# Altium schematic symbol library 10A_Motor_Driver.SchLib: 72 symbols (part 2 of 2)
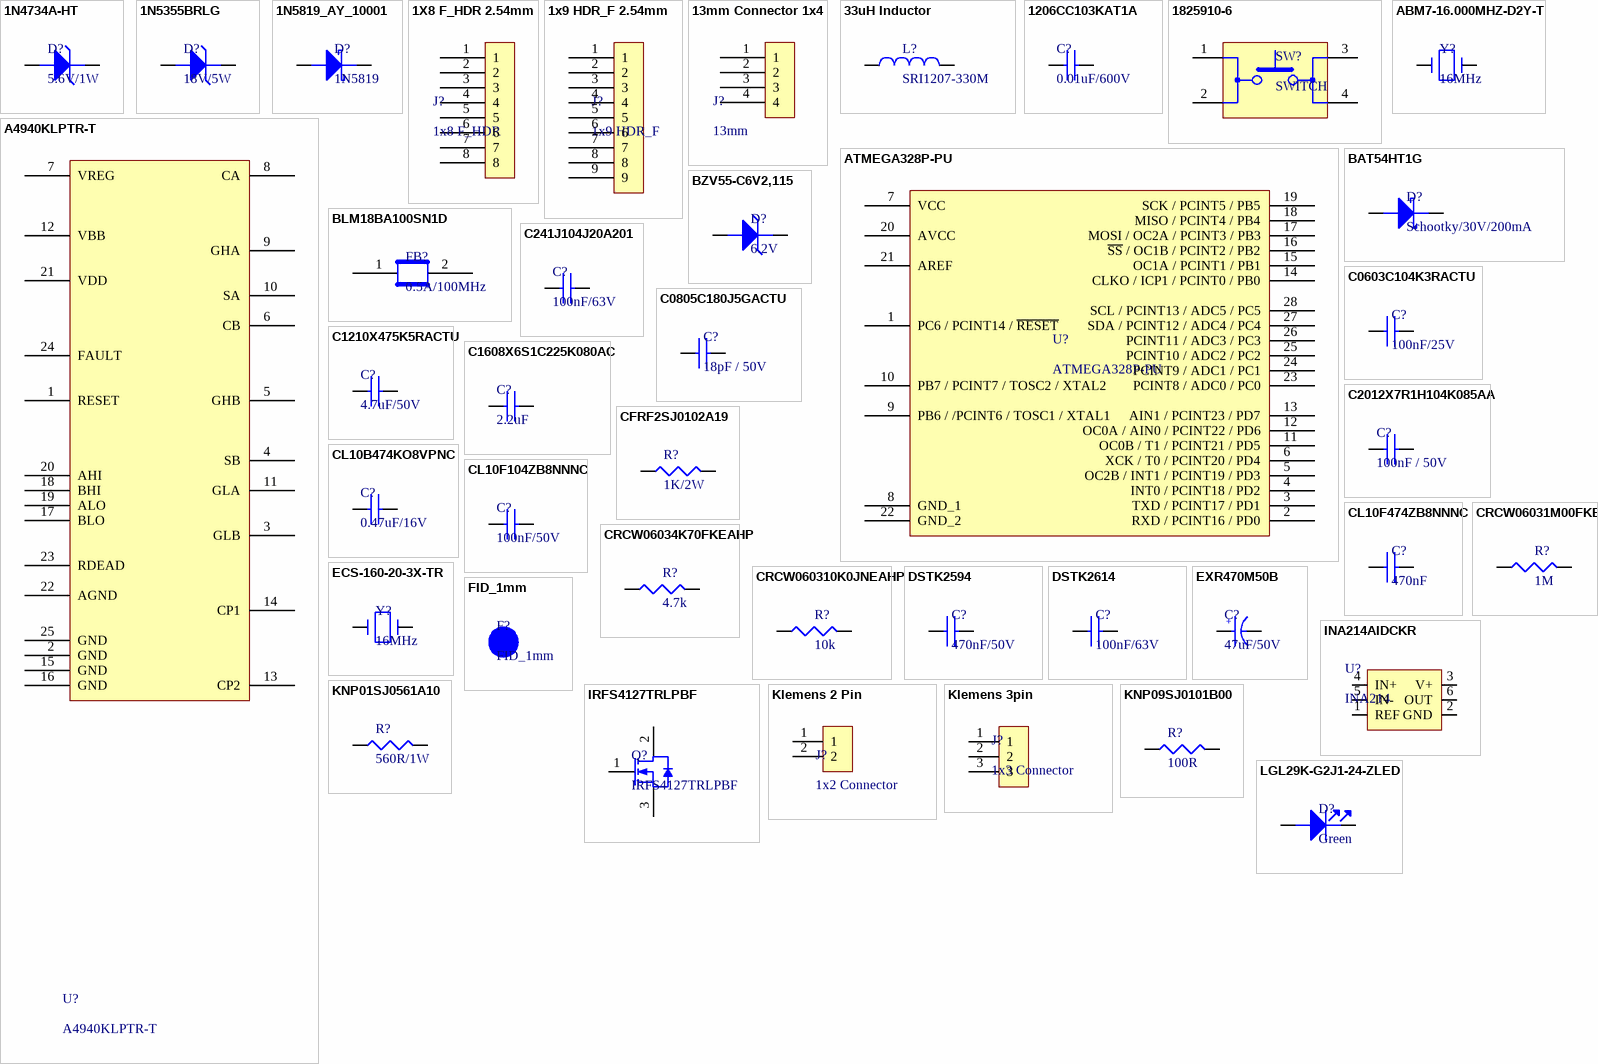
[diagram p2: symbols 1N4734A-HT to LGL29K-G2J1-24-ZLED]

## IRFS4127TRLPBF
designator Q?
MOSFET N-CH 200V 72A D2PAK; Manufacturer: International Rectifier; Rise Time: 18ns; Fall Time: 22ns; Turn-Off Delay Time: 56ns; Turn-On Delay Time: 17ns; Gate to Source Voltage (Vgs): 20V; Rds On Max: 22mR; Input Capacitance: 5.38nF; Max Power Dissipation: 375W; Element Configuration: Single; Supplier 1: Arrow; Manufacturer Part Number: IRFS4127TRLPBF; RoHS: Yes; Category: MOSFETs; Stock 1: 25; Pricing 1: 1=2,62080, 10=2,29670, 25=2,28010, 50=2,25740, 100=1,79330, 250=1,70640, 500=1,68930, 1000=1,44110, 3000=1,29240, 6000=1,28060, 15000=1,26780, 30000=1,25510, 75000=1,24260 (USD); Mount: Surface Mount; Case/Package: D2PAK; Number of Pins: 3; Min Operating Temperature: -55°C; Max Operating Temperature: 175°C; Continuous Drain Current (ID): 72A; Package Quantity: 1; Packaging: Tape and Reel; Drain to Source Voltage (Vdss): 200V; Drain to Source Breakdown Voltage: 200V; Drain to Source Resistance: 22mR; Power Dissipation: 375W; On-State Resistance: 22MR; ComponentLink1URL: https://datasheet.ciiva.com/939/irfs4127pbf-939456.pdf?src-supplier=Digi-Key; ComponentLink1Description: https://datasheet.ciiva.com/939/irfs4127pbf-939456.pdf?src-supplier=Digi-Key; ComponentLink2URL: https://datasheet.ciiva.com/939/irfs4127pbf-939457.pdf?src-supplier=Digi-Key; ComponentLink2Description: https://datasheet.ciiva.com/939/irfs4127pbf-939457.pdf?src-supplier=Digi-Key; ComponentLink3URL: https://datasheet.ciiva.com/939/irfs4127pbf-939458.pdf?src-supplier=Digi-Key; ComponentLink3Description: https://datasheet.ciiva.com/939/irfs4127pbf-939458.pdf?src-supplier=Digi-Key; ComponentLink4URL: https://datasheet.ciiva.com/16221/irfs4127pbf-16221031.pdf?src-supplier=Future+Electronics; ComponentLink4Description: https://datasheet.ciiva.com/16221/irfs4127pbf-16221031.pdf?src-supplier=Future+Electronics; Supplier Part Number 1: IRFS4127TRLPBF
footprint TO-220
pins: 1 GATE, 2 DRAIN, 3 SOURCE

## Klemens 2 Pin
designator J?, comment 1x2 Connector
footprint Klemens 1x2
pins: 1, 2

## Klemens 3pin
designator J?, comment 1x3 Connector
footprint KLEMENS 1x3
pins: 1, 2, 3

## KNP01SJ0561A10
designator R?, comment 560R/1W
footprint THT Resistor
pins: 1, 2

## KNP09SJ0101B00
designator R?, comment 100R
footprint THT Resistor
pins: 1, 2

## LGL29K-G2J1-24-ZLED
designator D?, comment Green
Uni-Color Green 572nm 2-Pin Chip 0603(1608Metric) T/R
footprint LED_0603_GREEN
pins: 1 Cathode, 2 Anode

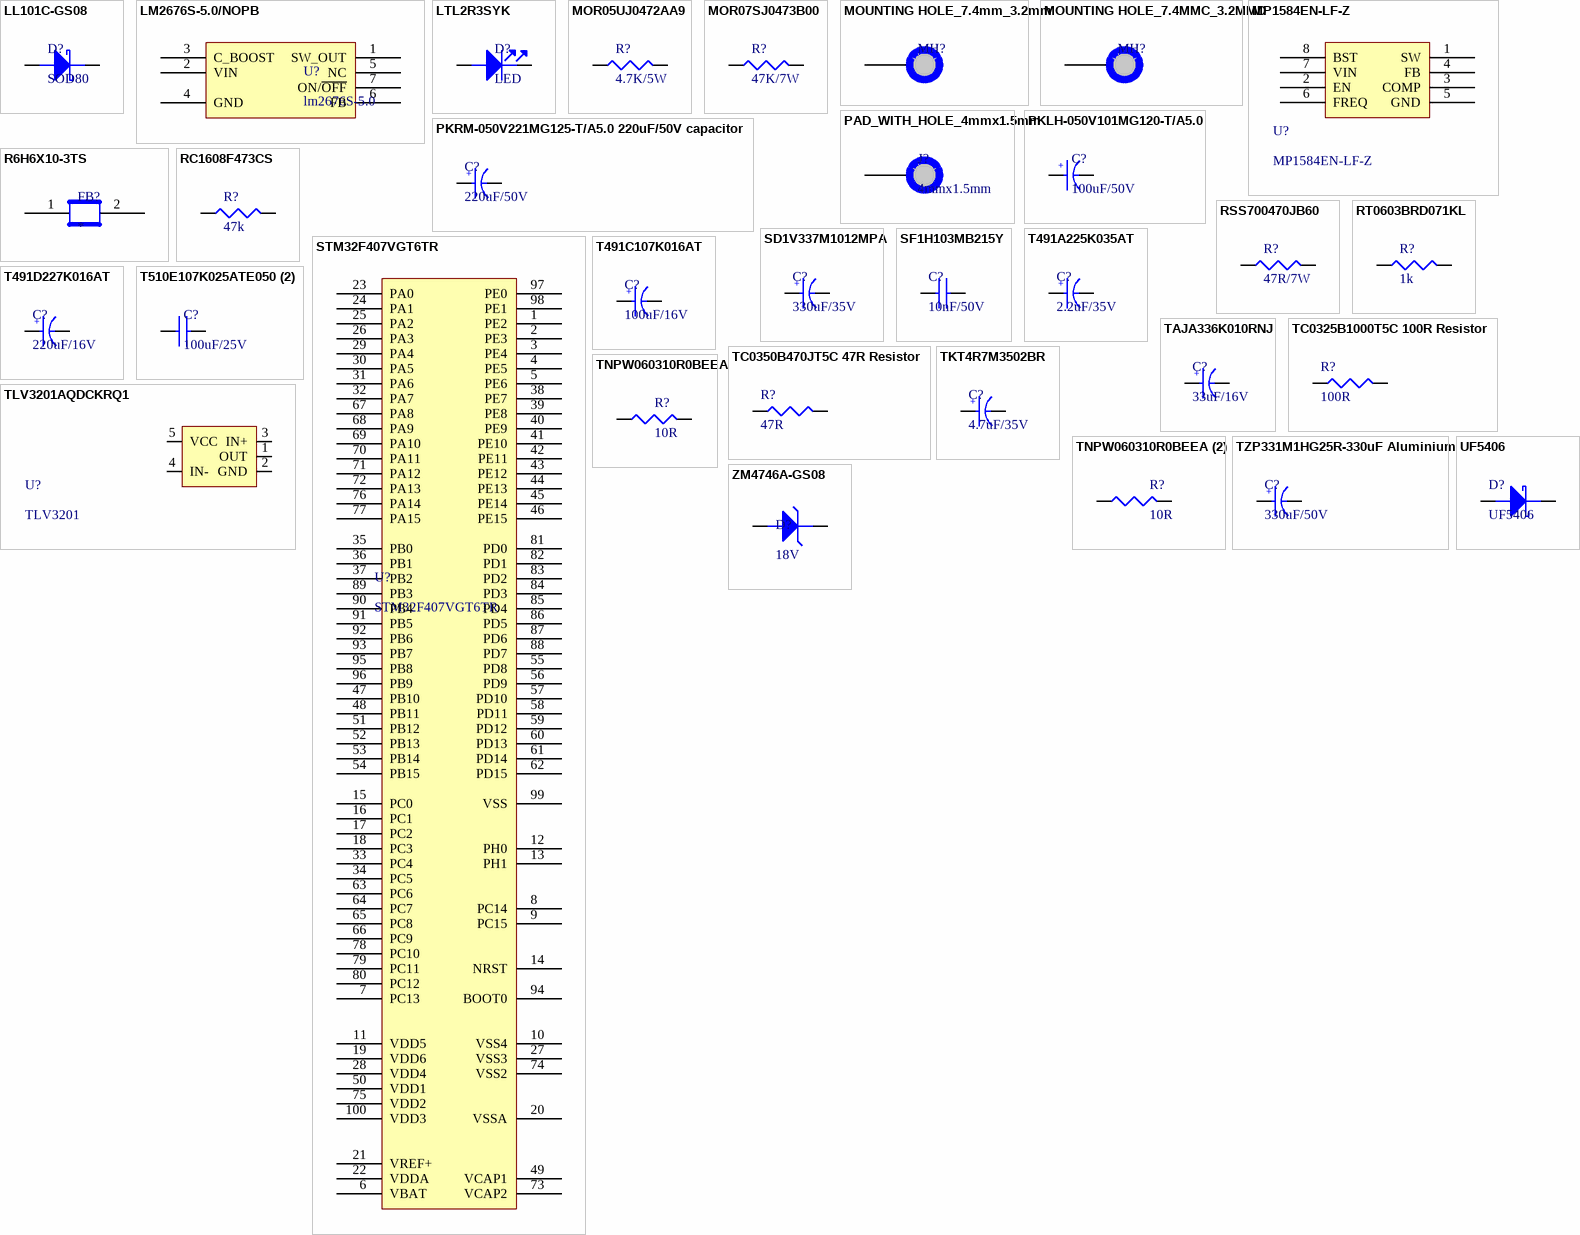
[diagram p1: symbols LL101C-GS08 to ZM4746A-GS08]

## LL101C-GS08
designator D?, comment SOD80
VISHAY   LL101C-GS08   DIODE, SCHOTTKY, 40V 0.03A, SOD80; Average Rectified Current: 30mA; Peak Reverse Current: 200nA; Reverse Recovery Time: 1ns; Max Forward Surge Current (Ifsm): 2A; Power Dissipation: 400mW; Current Rating: 30A; Element Configuration: Single; Forward Voltage: 900mV; Supplier 1: Avnet; Manufacturer: Vishay; Manufacturer Part Number: LL101C-GS08; RoHS: Yes; Category: Schottky Diodes; Stock 1: 20000; Pricing 1: 2500=0,05455, 5000=0,05303, 10000=0,05160, 15000=0,05024, 25000=0,04895 (USD); Mount: Surface Mount; Number of Pins: 2; Min Operating Temperature: -65°C; Max Operating Temperature: 125°C; Max Repetitive Reverse Voltage (Vrrm): 40V; Peak Non-Repetitive Surge Current: 2A; Packaging: Tape and Reel; Package Quantity: 2500; Forward Current: 30mA; Max Reverse Voltage (DC): 40V; Current: 2A; Voltage: 40V; Max Reverse Leakage Current: 200nA; Max Surge Current: 2A; Recovery Time: 1ns; Length: 3.7mm; Height: 1.6mm; Width: 1.6mm; Radiation Hardening: No; Lead Free: Lead Free; REACH SVHC: Unknown; ComponentLink1URL: https://datasheet.ciiva.com/5726/1734641-5726561.pdf?src-supplier=Farnell; ComponentLink1Description: https://datasheet.ciiva.com/5726/1734641-5726561.pdf?src-supplier=Farnell; ComponentLink2URL: https://datasheet.ciiva.com/23642/1734837-23642459.pdf?src-supplier=Newark; ComponentLink2Description: https://datasheet.ciiva.com/23642/1734837-23642459.pdf?src-supplier=Newark; ComponentLink3URL: https://datasheet.ciiva.com/4246/ll101a-4246222.pdf?src-supplier=Arrow; ComponentLink3Description: https://datasheet.ciiva.com/4246/ll101a-4246222.pdf?src-supplier=Arrow; ComponentLink4URL: https://datasheet.ciiva.com/16386/ll101a-16386169.pdf?src-supplier=Future+Electronics; ComponentLink4Description: https://datasheet.ciiva.com/16386/ll101a-16386169.pdf?src-supplier=Future+Electronics; ComponentLink5URL: https://datasheet.ciiva.com/13946/ll101a-13946748.pdf?src-supplier=Digi-Key; ComponentLink5Description: https://datasheet.ciiva.com/13946/ll101a-13946748.pdf?src-supplier=Digi-Key; ComponentLink6URL: https://datasheet.ciiva.com/13946/ll101a-13946749.pdf?src-supplier=Digi-Key; ComponentLink6Description: https://datasheet.ciiva.com/13946/ll101a-13946749.pdf?src-supplier=Digi-Key; ComponentLink7URL: https://datasheet.ciiva.com/25931/ll101a-25931901.pdf?src-supplier=Avnet+Europe; ComponentLink7Description: https://datasheet.ciiva.com/25931/ll101a-25931901.pdf?src-supplier=Avnet+Europe; ComponentLink8URL: https://datasheet.ciiva.com/8288/ll101a-8288574.pdf?src-supplier=Avnet; ComponentLink8Description: https://datasheet.ciiva.com/8288/ll101a-8288574.pdf?src-supplier=Avnet; ComponentLink9URL: https://datasheet.ciiva.com/13946/ll101a-13946750.pdf?src-supplier=Digi-Key; ComponentLink9Description: https://datasheet.ciiva.com/13946/ll101a-13946750.pdf?src-supplier=Digi-Key; Supplier Part Number 1: LL101C-GS08
footprint SOD-80/SCHOOTKY-DIOMELF3515N (MELF Diode, 2-Leads, Body 3,50x1,50mm, IPC Medium Density)
pins: 1 Cathode, 2 Anode

## LM2676S-5.0/NOPB
designator U?, comment lm2676S-5.0
TEXAS INSTRUMENTS - LM2676S-5.0/NOPB - STEP-DOWN VOLTAGE REGULATOR, 7-TO-263; Manufacturer: TI National Semiconductor; Output Voltage: 5V; Max Output Current: 3A; Number of Outputs: 1; Min Input Voltage: 8V; Max Input Voltage: 40V; Min Output Voltage: 4.9V; Switching Frequency: 260kHz; Efficiency: 88%; Output Type: Fixed; Quiescent Current: 4.2mA; Max Output Voltage: 5.1V; Supplier 1: Avnet; Manufacturer Part Number: LM2676S-5.0/NOPB; RoHS: Yes; Category: Voltage Regulators - Switching; Stock 1: 1126; Pricing 1: 1=3,79613, 10=3,69863, 25=3,60601, 50=3,51792, 100=3,38028 (USD); Mount: Surface Mount; Case/Package: TO-263; Number of Pins: 7; Weight: 0.25lb; Contact Plating: Tin,Matte; Min Operating Temperature: -40°C; Max Operating Temperature: 125°C; Package Quantity: 45; Packaging: Rail/Tube; Output Current: 3A; Frequency: 260kHz; Termination: SMD/SMT; Max Supply Voltage: 40V; Min Supply Voltage: 8V; Nominal Output Voltage: 5V; Length: 10.16mm; Height: 4.57mm; Width: 8.64mm; Radiation Hardening: No; Lead Free: Contains Lead; REACH SVHC: No SVHC; ComponentLink1URL: https://datasheet.ciiva.com/27051/1298953-27051889.pdf?src-supplier=Jameco; ComponentLink1Description: https://datasheet.ciiva.com/27051/1298953-27051889.pdf?src-supplier=Jameco; ComponentLink2URL: https://datasheet.ciiva.com/14150/jvlm2676x-xx-e-14150647.pdf?src-supplier=Distrelec; ComponentLink2Description: https://datasheet.ciiva.com/14150/jvlm2676x-xx-e-14150647.pdf?src-supplier=Distrelec; ComponentLink3URL: https://datasheet.ciiva.com/6580/lm2676-6580170.pdf?src-supplier=Digi-Key; ComponentLink3Description: https://datasheet.ciiva.com/6580/lm2676-6580170.pdf?src-supplier=Digi-Key; ComponentLink4URL: https://datasheet.ciiva.com/22684/1874597-22684586.pdf?src-supplier=Element14; ComponentLink4Description: https://datasheet.ciiva.com/22684/1874597-22684586.pdf?src-supplier=Element14; ComponentLink5URL: https://datasheet.ciiva.com/16536/lm2676-16536143.pdf?src-supplier=Avnet+Asia; ComponentLink5Description: https://datasheet.ciiva.com/16536/lm2676-16536143.pdf?src-supplier=Avnet+Asia; Supplier Part Number 1: LM2676S-5.0/NOPB
footprint LM2576-DPAK127P1418X465-8N (D2-PAK, 8-Pads, Body 7,55x8,57mm (max), IPC Medium Density)
pins: 1 SW_OUT, 2 VIN, 3 C_BOOST, 4 GND, 5 NC, 6 FB, 7 ON/~{OFF}

## LTL2R3SYK
designator D?, comment LED
LED AMBER CLEAR 5MM ROUND T/H; Manufacturer: Vishay Lite-On; Manufacturer Part Number: LTL2R3SYK; Lens Color: Colorless; Color: Orange; Test Current: 20mA; Dominant Wavelength: 590nm; Lens Style: Dome; Luminous Intensity: 2800mcd; Viewing Angle: 30°; Wavelength: 594nm; Forward Voltage: 2.35V; Supplier 1: Mouser; RoHS: Yes; Category: LEDs; Mount: Through Hole; Case/Package: Radial; Min Operating Temperature: -40°C; Max Operating Temperature: 80°C; Lens Transparency: Clear; Packaging: Bulk; Package Quantity: 1000; Illumination Color: Orange; Diameter: 5mm; Height: 8.7mm; ComponentLink1URL: http://www.mouser.com/ds/2/239/_100_LTL2P3SEK+SYK+2R3SEK+SYK-62951.pdf?src-supplier=Mouser; ComponentLink1Description: http://www.mouser.com/ds/2/239/_100_LTL2P3SEK+SYK+2R3SEK+SYK-62951.pdf?src-supplier=Mouser; ComponentLink2URL: https://media.digikey.com/pdf/Data%20Sheets/Lite-On%20PDFs/LTL2x3SEK,SYK.pdf?src-supplier=Digi-Key; ComponentLink2Description: https://media.digikey.com/pdf/Data%20Sheets/Lite-On%20PDFs/LTL2x3SEK,SYK.pdf?src-supplier=Digi-Key; Supplier Part Number 1: 859-LTL2R3SYK
footprint 5mm LED
pins: 1 Cathode, 2 Anode

## MOR05UJ0472AA9
designator R?, comment 4.7K/5W
footprint THT Resistor
pins: 1, 2

## MOR07SJ0473B00
designator R?, comment 47K/7W
Manufacturer: Royal Ohm; Manufacturer Part Number: MOR07SJ0473B00; Supplier 1: Avnet; Supplier Part Number 1: YDL66R-24-61S46106
footprint THT Resistor
pins: 1, 2

## MOUNTING HOLE_7.4mm_3.2mm
designator MH?  (value not drawn)
Mounting Hole  7.4mm, 3.2mm
footprint MH_7.2MMC_3.2MMD - duplicate
pins: 1

## MOUNTING HOLE_7.4MMC_3.2MMD
designator MH?  (value not drawn)
Mounting Hole  7.4mm, 3.2mm
footprint MH_7.2MMC_3.2MMD
pins: 1

## MP1584EN-LF-Z
designator U?
Switching Voltage Regulators 3A 1.5MHz 28V Nonsync Buck; Manufacturer: Monolithic Power Systems; Number of Outputs: 1; Min Input Voltage: 4.5V; Min Output Voltage: 800mV; Max Output Voltage: 25V; Synchronous Rectifier: No; Output Type: Adjustable; Output Configuration: Positive; Supplier 1: Mouser; Manufacturer Part Number: MP1584EN-LF-Z; RoHS: Yes; Category: Voltage Regulators - Switching; Stock 1: 2293; Pricing 1: 1=2,77000, 10=2,49000, 25=2,36000, 100=1,94000, 250=1,74000, 500=1,68000 (USD); Mount: Surface Mount; Case/Package: SOIC; Number of Pins: 8; Contact Plating: Tin,Matte; Min Operating Temperature: -20°C; Max Operating Temperature: 85°C; Max Input Voltage: 28V; Output Current: 3A; Switching Frequency: 1.5MHz; Packaging: Tape and Reel; Package Quantity: 2500; Operating Supply Voltage: 28V; Max Output Current: 3A; Output Voltage: 25V; Lead Free: Lead Free; ComponentLink1URL: http://www.mouser.com/ds/2/277/MP1584_r1.0-779241.pdf?src-supplier=Mouser; ComponentLink1Description: http://www.mouser.com/ds/2/277/MP1584_r1.0-779241.pdf?src-supplier=Mouser; ComponentLink2URL: http://www.monolithicpower.com/Portals/0/Documents/Products/Documents/datasheet/MP1584_r1.0.pdf?src-supplier=Digi-Key; ComponentLink2Description: http://www.monolithicpower.com/Portals/0/Documents/Products/Documents/datasheet/MP1584_r1.0.pdf?src-supplier=Digi-Key; ComponentLink3URL: http://www.monolithicpower.com/Portals/0/Documents/Products/Documents/datasheet/MP1584_r1.0.pdf?src-supplier=Avnet+Asia; ComponentLink3Description: http://www.monolithicpower.com/Portals/0/Documents/Products/Documents/datasheet/MP1584_r1.0.pdf?src-supplier=Avnet+Asia; ComponentLink4URL: https://www.monolithicpower.com/pub/media/document/MP1584_r1.0.pdf?src-supplier=Digi-Key; ComponentLink4Description: https://www.monolithicpower.com/pub/media/document/MP1584_r1.0.pdf?src-supplier=Digi-Key; Supplier Part Number 1: 946-MP1584ENLFZ
footprint SOIC127P600X170_HS-9N (SOIC, 8-Leads, Body 4,90x3,90mm, Pitch 1,27mm, Thermal Pad 3,51x2,62mm, IPC Medium Density)
pins: 1 SW, 2 EN, 3 COMP, 4 FB, 5 GND, 6 FREQ, 7 VIN, 8 BST

## PAD_WITH_HOLE_4mmx1.5mm
designator J?, comment 4mmx1.5mm  (no BOM)
PAD_WITH_HOLE_4mmx1.5mm
footprint PAD_WITH_HOLE_4mmx1.5mm
pins: 1

## PKLH-050V101MG120-T/A5.0
designator C?, comment 100uF/50V
footprint 10x12 THT Cap
pins: 1, 2
text: +

## PKRM-050V221MG125-T/A5.0 220uF/50V capacitor
designator C?, comment 220uF/50V
footprint 10X12.5X5 Alu Cap
pins: 1, 2
text: +

## R6H6X10-3TS
designator FB?
footprint 1N4745
pins: 1, 2

## RC1608F473CS
designator R?, comment 47k
Res Thick Film 0603 47K Ohm 1% 0.1W(1/10W) ±100ppm/C Molded SMD T/R; Manufacturer: Samsung; Manufacturer Part Number: RC1608F473CS; Resistance: 47kR; Temperature Coefficient: 100ppm/°C; Max Power Dissipation: 100mW; Voltage Rating (DC): 50V; Supplier 1: Arrow; RoHS: Yes; Category: Chip SMD Resistors; Stock 1: 115000; Pricing 1: 2000000=0,00830, 2500000=0,00820, 3000000=0,00810, 100000000=0,00800, 1=0,09500, 10=0,07710, 25=0,07640, 100=0,02900, 250=0,02860, 500=0,02830, 1000=0,01700, 3000=0,01050, 6000=0,00850, 15000=0,00750, 30000=0,00740 (USD); Case/Package: 0603; Contact Plating: Tin; Case Code (Imperial): 0603; Case Code (Metric): 1608; Min Operating Temperature: -55°C; Max Operating Temperature: 155°C; Tolerance: 1%; Composition: Thick Film; Number of Terminations: 2; Military Standard: Not; Packaging: Tape and Reel; Features: Moisture Resistant; Length: 0.063inch; Height: 0.022inch; Width: 0.031inch; Depth: 0.8mm; Radiation Hardening: No; Lead Free: Lead Free; ComponentLink1URL: https://datasheet.ciiva.com/26170/chip-resistor-150112-1-26170713.pdf?src-supplier=Digi-Key; ComponentLink1Description: https://datasheet.ciiva.com/26170/chip-resistor-150112-1-26170713.pdf?src-supplier=Digi-Key; ComponentLink2URL: https://datasheet.ciiva.com/26170/chip-resistor-150112-1-26170699.pdf?src-supplier=Digi-Key; ComponentLink2Description: https://datasheet.ciiva.com/26170/chip-resistor-150112-1-26170699.pdf?src-supplier=Digi-Key; ComponentLink3URL: https://datasheet.ciiva.com/26170/chip-resistor-150112-1-26170685.pdf?src-supplier=Digi-Key; ComponentLink3Description: https://datasheet.ciiva.com/26170/chip-resistor-150112-1-26170685.pdf?src-supplier=Digi-Key; Supplier Part Number 1: RC1608F473CS
footprint 0603-RESC1608X06N (Chip Resistor, 2-Leads, Body 1,60x0,80mm, IPC Medium Density)
pins: 1, 2

## RSS700470JB60
designator R?, comment 47R/7W
footprint THT Resistor
pins: 1, 2

## RT0603BRD071KL
designator R?, comment 1k
Thin Film Resistors - SMD 1K OHM .1% 25PPM; Manufacturer: Yageo; Manufacturer Part Number: RT0603BRD071KL; Max Power Dissipation: 100mW; Resistance: 1kR; Voltage Rating: 75V; Temperature Coefficient: 25ppm/°C; Voltage Rating (DC): 50V; Supplier 1: Future Electronics; RoHS: Yes; Category: Chip SMD Resistors; Stock 1: 136026; Pricing 1: 1=0,37000, 100=0,12300, 250=0,09900, 500=0,08380, 1500=0,06440 (USD); Mount: Surface Mount; Case/Package: 0603; Case Code (Metric): 1608; Case Code (Imperial): 0603; Contact Plating: Tin,Lead; Min Operating Temperature: -55°C; Max Operating Temperature: 125°C; Package Quantity: 5000; Packaging: Tape and Reel; Power Rating: 100mW; Number of Terminations: 2; Termination: SMD/SMT; Military Standard: Not; Composition: Thin Film; Features: Moisture Resistant; Length: 1.6mm; Height: 0.022inch; Width: 0.031inch; Depth: 0.8mm; Lead Free: Lead Free; ComponentLink1URL: https://datasheet.ciiva.com/11819/0900766b8079c86e-11819652.pdf?src-supplier=RSComponents; ComponentLink1Description: https://datasheet.ciiva.com/11819/0900766b8079c86e-11819652.pdf?src-supplier=RSComponents; ComponentLink2URL: https://datasheet.ciiva.com/29718/pyu-rt-1-to-0-05-rohs-l-4-29718010.pdf?src-supplier=Digi-Key; ComponentLink2Description: https://datasheet.ciiva.com/29718/pyu-rt-1-to-0-05-rohs-l-4-29718010.pdf?src-supplier=Digi-Key; ComponentLink3URL: https://datasheet.ciiva.com/29718/pyu-rt-1-to-0-05-rohs-l-4-29718011.pdf?src-supplier=Digi-Key; ComponentLink3Description: https://datasheet.ciiva.com/29718/pyu-rt-1-to-0-05-rohs-l-4-29718011.pdf?src-supplier=Digi-Key; ComponentLink4URL: https://datasheet.ciiva.com/5624/pyu-rt-1-to-0-05-rohs-l-4-5624759.pdf?src-supplier=Mouser; ComponentLink4Description: https://datasheet.ciiva.com/5624/pyu-rt-1-to-0-05-rohs-l-4-5624759.pdf?src-supplier=Mouser; Supplier Part Number 1: RT0603BRD071KL-CUTT
footprint 0603-RESC1608X06N (Chip Resistor, 2-Leads, Body 1,60x0,80mm, IPC Medium Density)
pins: 1, 2

## SD1V337M1012MPA
designator C?, comment 330uF/35V
footprint 10x12 THT Cap
pins: 1, 2
text: +

## SF1H103MB215Y
designator C?, comment 10nF/50V
footprint CERAMIC CAP
pins: 1, 2

## STM32F407VGT6TR
designator U?
STM32F Series 1 MB Flash 192 kB RAM ARM Based 32-Bit Microcontroller - LQFP-100; Manufacturer: STMicroelectronics; Interface: I2C,SPI,USB,CAN,Ethernet,IrDA,UART,USART,LIN,EBI/EMI,I2S; Data Bus Width: 32b; Max Supply Voltage: 3.6V; Min Supply Voltage: 1.8V; Frequency: 168MHz; RAM Size: 192KB; Number of I/Os: 82; Oscillator Type: Internal; Memory Size: 1024KB; Peripherals: Brown-out Detect/Reset,POR,PWM,WDT,DMA,LCD,I2C; Number of Timers/Counters: 14; Watchdog Timer: Yes; Max Power Dissipation: 465mW; Supplier 1: Future Electronics; Manufacturer Part Number: STM32F407VGT6TR; RoHS: Yes; Category: Microcontrollers; Stock 1: 1000; Pricing 1: 1000=8,64000 (USD); Case/Package: LQFP; Number of Pins: 100; Min Operating Temperature: -40°C; Max Operating Temperature: 85°C; Core Architecture: ARM; Package Quantity: 1000; Packaging: Tape and Reel; Max Frequency: 168MHz; Memory Type: FLASH; Number of Programmable I/O: 82; Radiation Hardening: No; REACH SVHC: No SVHC; Lead Free: Lead Free; ComponentLink1URL: https://datasheet.ciiva.com/46384/1719442-46384038.pdf?src-supplier=Element14; ComponentLink1Description: https://datasheet.ciiva.com/46384/1719442-46384038.pdf?src-supplier=Element14; ComponentLink2URL: https://datasheet.ciiva.com/29719/dm00037051-29719319.pdf?src-supplier=Digi-Key; ComponentLink2Description: https://datasheet.ciiva.com/29719/dm00037051-29719319.pdf?src-supplier=Digi-Key; ComponentLink3URL: https://datasheet.ciiva.com/22692/1719442-22692042.pdf?src-supplier=Element14; ComponentLink3Description: https://datasheet.ciiva.com/22692/1719442-22692042.pdf?src-supplier=Element14; ComponentLink4URL: https://datasheet.ciiva.com/12270/dm00037051-492832-12270799.pdf?src-supplier=Mouser; ComponentLink4Description: https://datasheet.ciiva.com/12270/dm00037051-492832-12270799.pdf?src-supplier=Mouser; Supplier Part Number 1: 8025416
footprint STM32F407VGT6 (TSQFP, 100-Leads, Body 14,00x14,00mm, Pitch 0,50mm, IPC Medium Density)
pins: 1 PE2, 2 PE3, 3 PE4, 4 PE5, 5 PE6, 6 VBAT, 7 PC13, 8 PC14, 9 PC15, 10 VSS4, 11 VDD5, 12 PH0, 13 PH1, 14 NRST, 15 PC0, 16 PC1, 17 PC2, 18 PC3, 19 VDD6, 20 VSSA, 21 VREF+, 22 VDDA, 23 PA0, 24 PA1, 25 PA2, 26 PA3, 27 VSS3, 28 VDD4, 29 PA4, 30 PA5, 31 PA6, 32 PA7, 33 PC4, 34 PC5, 35 PB0, 36 PB1, 37 PB2, 38 PE7, 39 PE8, 40 PE9, 41 PE10, 42 PE11, 43 PE12, 44 PE13, 45 PE14, 46 PE15, 47 PB10, 48 PB11, 49 VCAP1, 50 VDD1, 51 PB12, 52 PB13, 53 PB14, 54 PB15, 55 PD8, 56 PD9, 57 PD10, 58 PD11, 59 PD12, 60 PD13, 61 PD14, 62 PD15, 63 PC6, 64 PC7, 65 PC8, 66 PC9, 67 PA8, 68 PA9, 69 PA10, 70 PA11, 71 PA12, 72 PA13, 73 VCAP2, 74 VSS2, 75 VDD2, 76 PA14, 77 PA15, 78 PC10, 79 PC11, 80 PC12, 81 PD0, 82 PD1, 83 PD2, 84 PD3, 85 PD4, 86 PD5, 87 PD6, 88 PD7, 89 PB3, 90 PB4, 91 PB5, 92 PB6, 93 PB7, 94 BOOT0, 95 PB8, 96 PB9, 97 PE0, 98 PE1, 99 VSS, 100 VDD3

## T491A225K035AT
designator C?, comment 2.2uF/35V
CAPACITOR, TANTALUM, 2.2UF, 35V, 1206; Manufacturer: KEMET; Manufacturer Part Number: T491A225K035AT; Tolerance: 10%; ESR (Equivalent Series Resistance): 4.5R; Life (Hours): 2000Hour; Dissipation Factor: 6%; Polarity: Polar; Supplier 1: Mouser; RoHS: Yes; Category: Tantalum Capacitors; Stock 1: 6771; Pricing 1: 1=0,51000, 10=0,38700, 100=0,24300, 500=0,20800, 1000=0,18200, 2000=0,14200 (USD); Mount: Surface Mount; Case/Package: Molded; Case Code (Imperial): 1206; Case Code (Metric): 3216; Min Operating Temperature: -55°C; Max Operating Temperature: 125°C; Capacitance: 2.2uF; Package Quantity: 2000; Packaging: Tape and Reel; Voltage Rating: 35V; Voltage Rating (DC): 35V; Features: General Purpose; Length: 3.2mm; Height: 1.6mm; Width: 0.063inch; Height - Seated (Max): 0.071inch; Depth: 1.6mm; Radiation Hardening: No; Lead Free: Lead Free; REACH SVHC: No SVHC; ComponentLink1URL: https://datasheet.ciiva.com/14885/kem-t2005-t491-14885413.pdf?src-supplier=Digi-Key; ComponentLink1Description: https://datasheet.ciiva.com/14885/kem-t2005-t491-14885413.pdf?src-supplier=Digi-Key; Supplier Part Number 1: 80-T491A225K035AT
footprint CASE A TANTAL (Molded Diode, 2-Leads, Body 3,20x1,60mm, IPC Medium Density)
pins: 1, 2
text: +

## T491C107K016AT
designator C?, comment 100uF/16V
CAP TANT 100UF 10% 16V 2312; Manufacturer: KEMET; Manufacturer Part Number: T491C107K016AT; Dielectric Material: Tantalum; ESR (Equivalent Series Resistance): 1R; Life (Hours): 2000Hour; Ripple Current: 133mA; Leakage Current: 16uA; Polarity: Polar; Supplier 1: Mouser; RoHS: Yes; Category: Tantalum Capacitors; Stock 1: 13956; Pricing 1: 1=1,75000, 10=1,38000, 100=0,95900, 500=0,68000, 1000=0,59900, 2500=0,54000, 10000=0,51000, 25000=0,50000, 50000=0,49500 (USD); Mount: Surface Mount; Case/Package: Molded; Number of Pins: 2; Case Code (Imperial): 2413; Case Code (Metric): 6032; Min Operating Temperature: -55°C; Max Operating Temperature: 125°C; Packaging: Tape and Reel; Capacitance: 100uF; Tolerance: 10%; Voltage Rating: 16V; Features: General Purpose; Voltage Rating (DC): 16V; Package Quantity: 1; Termination: SMD/SMT; Voltage: 16V; Dissipation Factor: 10%; Length: 6mm; Height: 2.5mm; Width: 0.126inch; Height - Seated (Max): 0.11inch; Depth: 3.2mm; Radiation Hardening: No; Lead Free: Lead Free; REACH SVHC: No SVHC; ComponentLink1URL: https://datasheet.ciiva.com/46417/1854511-46417622.pdf?src-supplier=Element14; ComponentLink1Description: https://datasheet.ciiva.com/46417/1854511-46417622.pdf?src-supplier=Element14; ComponentLink2URL: https://datasheet.ciiva.com/12887/kem-t2005-t491-12887095.pdf?src-supplier=Mouser; ComponentLink2Description: https://datasheet.ciiva.com/12887/kem-t2005-t491-12887095.pdf?src-supplier=Mouser; ComponentLink3URL: https://datasheet.ciiva.com/46417/1854511-46417623.pdf?src-supplier=Element14; ComponentLink3Description: https://datasheet.ciiva.com/46417/1854511-46417623.pdf?src-supplier=Element14; ComponentLink4URL: https://datasheet.ciiva.com/46417/1854511-46417624.pdf?src-supplier=Element14; ComponentLink4Description: https://datasheet.ciiva.com/46417/1854511-46417624.pdf?src-supplier=Element14; ComponentLink5URL: https://datasheet.ciiva.com/7614/kem-t2005-t491-7614509.pdf?src-supplier=Digi-Key; ComponentLink5Description: https://datasheet.ciiva.com/7614/kem-t2005-t491-7614509.pdf?src-supplier=Digi-Key; ComponentLink6URL: https://datasheet.ciiva.com/7614/kem-t2005-t491-7614510.pdf?src-supplier=Digi-Key; ComponentLink6Description: https://datasheet.ciiva.com/7614/kem-t2005-t491-7614510.pdf?src-supplier=Digi-Key; ComponentLink7URL: https://datasheet.ciiva.com/7614/kem-t2005-t491-7614511.pdf?src-supplier=Digi-Key; ComponentLink7Description: https://datasheet.ciiva.com/7614/kem-t2005-t491-7614511.pdf?src-supplier=Digi-Key; Supplier Part Number 1: 80-T491C107K016AT
footprint CASE C TANTAL DIOM6032X28N (Molded Diode, 2-Leads, Body 6,00x3,20mm, IPC Medium Density)
pins: 1, 2
text: +

## T491D227K016AT
designator C?, comment 220uF/16V
KEMET - T491D227K016AT - Surface Mount Tantalum Capacitor, 220 µF, 16 V, 2917 [7343 Metric], T491 Series, ± 10%, -55 °C; Capacitance: 220uF; Voltage Rating: 16V; ESR (Equivalent Series Resistance): 900mR; Leakage Current: 35.2uA; Supplier 1: Mouser; Manufacturer: KEMET; Manufacturer Part Number: T491D227K016AT; RoHS: Yes; Category: Tantalum Capacitors; Stock 1: 12447; Pricing 1: 1=1,88000, 10=1,52000, 100=1,15000, 500=0,81700, 1000=0,72100, 2500=0,65800 (USD); Mount: Surface Mount; Case/Package: 2917; Number of Pins: 2; Case Code (Metric): 7343; Dielectric Material: Tantalum; Case Code (Imperial): 2917; Min Operating Temperature: -55°C; Max Operating Temperature: 125°C; Packaging: Cut Tape; Tolerance: 10%; Features: General Purpose; Package Quantity: 1; Voltage Rating (DC): 16V; Voltage: 16V; Termination: SMD/SMT; Length: 7.3mm; Height: 2.8mm; Width: 0.169inch; Height - Seated (Max): 0.122inch; Depth: 4.3mm; Radiation Hardening: No; Lead Free: Lead Free; REACH SVHC: No SVHC; ComponentLink1URL: https://datasheet.ciiva.com/14884/kem-t2005-t491-14884999.pdf?src-supplier=Digi-Key; ComponentLink1Description: https://datasheet.ciiva.com/14884/kem-t2005-t491-14884999.pdf?src-supplier=Digi-Key; ComponentLink2URL: https://datasheet.ciiva.com/14885/kem-t2005-t491-14885000.pdf?src-supplier=Digi-Key; ComponentLink2Description: https://datasheet.ciiva.com/14885/kem-t2005-t491-14885000.pdf?src-supplier=Digi-Key; ComponentLink3URL: https://datasheet.ciiva.com/14885/kem-t2005-t491-14885001.pdf?src-supplier=Digi-Key; ComponentLink3Description: https://datasheet.ciiva.com/14885/kem-t2005-t491-14885001.pdf?src-supplier=Digi-Key; Supplier Part Number 1: 80-T491D227K016AT
footprint DCASE TANTAL
pins: 1, 2
text: +

## T510E107K025ATE050 (2)
designator C?, comment 100uF/25V
Tantalum Capacitors - Solid SMD 25volt 100.uF 10%; Manufacturer: KEMET; Manufacturer Part Number: T510E107K025ATE050; Capacitance: 100uF; Voltage Rating: 25V; ESR (Equivalent Series Resistance): 50mR; Leakage Current: 25uA; Dissipation Factor: 8%; Life (Hours): 2000Hour; Polarity: Polar; Supplier 1: Avnet; RoHS: Yes; Category: Tantalum Capacitors; Stock 1: 1000; Pricing 1: 500=5,56358, 1000=5,35466, 2000=5,16086, 3000=4,98059, 5000=4,89822 (USD); Mount: Surface Mount,PCB; Case/Package: 2924; Number of Pins: 2; Dielectric Material: Tantalum; Case Code (Metric): 7360; Case Code (Imperial): 2924; Min Operating Temperature: -55°C; Max Operating Temperature: 125°C; Tolerance: 10%; Package Quantity: 1; Packaging: Tape and Reel; Termination: SMD/SMT; Voltage: 25V; Voltage Rating (DC): 25V; Features: General Purpose; Length: 7.3mm; Height: 3.6mm; Width: 0.236inch; Height - Seated (Max): 0.15inch; Depth: 6mm; Lead Pitch: 3.8mm; Radiation Hardening: No; REACH SVHC: No SVHC; ComponentLink1URL: https://datasheet.ciiva.com/6247/kem-t2014-t510-6247173.pdf?src-supplier=Digi-Key; ComponentLink1Description: https://datasheet.ciiva.com/6247/kem-t2014-t510-6247173.pdf?src-supplier=Digi-Key; ComponentLink2URL: https://datasheet.ciiva.com/14593/70095946-14593544.pdf?src-supplier=Allied+Electronics; ComponentLink2Description: https://datasheet.ciiva.com/14593/70095946-14593544.pdf?src-supplier=Allied+Electronics; ComponentLink3URL: https://datasheet.ciiva.com/7759/kem-t2014-t510-7759191.pdf?src-supplier=Element14; ComponentLink3Description: https://datasheet.ciiva.com/7759/kem-t2014-t510-7759191.pdf?src-supplier=Element14; Supplier Part Number 1: T510E107K025ATE050
footprint E CASE-TANTAL (Molded Capacitor, 2-Leads, Body 7,30x6,00mm, IPC Medium Density)
pins: 1, 2

## TAJA336K010RNJ
designator C?, comment 33uF/16V
AVX         TAJA336K010RNJ             Surface Mount Tantalum Capacitor, 33 F, 10 V, TAJ Series,  10%, 1206 [3216 Metric]; Manufacturer: Kyocera AVX; Capacitance: 33uF; ESR (Equivalent Series Resistance): 1.7R; Dissipation Factor: 8%; Leakage Current: 3.3uA; Polarity: Polar; Voltage Rating: 10V; Supplier 1: Future Electronics; Manufacturer Part Number: TAJA336K010RNJ; RoHS: Yes; Category: Tantalum Capacitors; Stock 1: 8000; Pricing 1: 1=0,27500, 100=0,20500, 250=0,19500, 500=0,18700, 1000=0,17900 (USD); Mount: Surface Mount; Case/Package: 1206; Number of Pins: 2; Case Code (Imperial): 1206; Case Code (Metric): 3216; Dielectric Material: Tantalum; Min Operating Temperature: -55°C; Max Operating Temperature: 125°C; Tolerance: 10%; Features: General Purpose; Termination: SMD/SMT; Packaging: Tape and Reel; Package Quantity: 1; Voltage Rating (DC): 10V; Voltage: 10V; Length: 3.2mm; Height: 1.8mm; Height - Seated (Max): 0.071inch; Depth: 1.6mm; Lead Pitch: 1.1mm; Width: 1.6mm; Radiation Hardening: No; REACH SVHC: No SVHC; Lead Free: Lead Free; ComponentLink1URL: https://datasheet.ciiva.com/29504/taj-29504360.pdf?src-supplier=Digi-Key; ComponentLink1Description: https://datasheet.ciiva.com/29504/taj-29504360.pdf?src-supplier=Digi-Key; ComponentLink2URL: https://datasheet.ciiva.com/29504/taj-29504361.pdf?src-supplier=Digi-Key; ComponentLink2Description: https://datasheet.ciiva.com/29504/taj-29504361.pdf?src-supplier=Digi-Key; ComponentLink3URL: https://datasheet.ciiva.com/29504/taj-29504362.pdf?src-supplier=Digi-Key; ComponentLink3Description: https://datasheet.ciiva.com/29504/taj-29504362.pdf?src-supplier=Digi-Key; ComponentLink4URL: https://datasheet.ciiva.com/16492/taj-16492795.pdf?src-supplier=Future+Electronics; ComponentLink4Description: https://datasheet.ciiva.com/16492/taj-16492795.pdf?src-supplier=Future+Electronics; ComponentLink5URL: https://datasheet.ciiva.com/11225/taj-11225007.pdf?src-supplier=Avnet; ComponentLink5Description: https://datasheet.ciiva.com/11225/taj-11225007.pdf?src-supplier=Avnet; Supplier Part Number 1: TAJA336K010RNJ-CUTT
footprint CASE A TANTAL (Molded Diode, 2-Leads, Body 3,20x1,60mm, IPC Medium Density)
pins: 1, 2
text: +

## TC0325B1000T5C 100R Resistor
designator R?, comment 100R
footprint 0603-RESC1608X06N (Chip Resistor, 2-Leads, Body 1,60x0,80mm, IPC Medium Density)
pins: 1, 2

## TC0350B470JT5C 47R Resistor
designator R?, comment 47R
footprint 0603-RESC1608X06N (Chip Resistor, 2-Leads, Body 1,60x0,80mm, IPC Medium Density)
pins: 1, 2

## TKT4R7M3502BR
designator C?, comment 4.7uF/35V
footprint TANTALUM CAP THT 1
pins: 1, 2
text: +

## TLV3201AQDCKRQ1
designator U?, comment TLV3201
IC COMPARATOR PUSH PULL SC70-5; Manufacturer: Texas Instruments; Manufacturer Part Number: TLV3201AQDCKRQ1; Number of Channels: 1; Input Offset Voltage (Vos): 1mV; Input Bias Current: 5nA; Quiescent Current: 40uA; Common Mode Rejection Ratio: 85dB; Propagation Delay: 50ns; Hysteresis: 1.2mV; Supplier 1: Mouser; RoHS: No; Category: Comparators; Stock 1: 9654; Pricing 1: 1=1,56000, 10=1,33000, 100=0,92500, 500=0,87600, 1000=0,68200, 3000=0,63000 (USD); Mount: Surface Mount; Case/Package: SC; Min Operating Temperature: -40°C; Max Operating Temperature: 125°C; Type: General Purpose; Packaging: Tape and Reel; Number of Elements: 1; Max Input Current: 5nA; Power Supply Rejection Ratio (PSRR): 85dB; ComponentLink1URL: http://www.ti.com/lit/ds/symlink/tlv3201-q1.pdf?src-supplier=Digi-Key; ComponentLink1Description: http://www.ti.com/lit/ds/symlink/tlv3201-q1.pdf?src-supplier=Digi-Key; Supplier Part Number 1: 595-TLV3201AQDCKRQ1
footprint TLV3201-SOT65P210X110-5N (SOT23, 5-Leads, Body 2,00x2,10mm, Pitch 0,65mm, IPC Medium Density)
pins: 1 OUT, 2 GND, 3 IN+, 4 IN-, 5 VCC

## TNPW060310R0BEEA
designator R?, comment 10R
RES 10 OHM 0.1% 1/8W 0603; Manufacturer: Vishay Dale; Manufacturer Part Number: TNPW060310R0BEEA; Power Rating: 100mW; Voltage Rating: 75V; Temperature Coefficient: 25ppm/°C; Voltage Rating (DC): 50V; Supplier 1: Future Electronics; RoHS: Yes; Category: Chip SMD Resistors; Stock 1: 5937; Pricing 1: 1=0,71500, 100=0,31500, 250=0,27000, 500=0,23500, 1500=0,19500 (USD); Case/Package: 0603; Weight: 7.1E-05oz; Case Code (Imperial): 0603; Case Code (Metric): 1608; Contact Plating: Tin; Min Operating Temperature: -55°C; Max Operating Temperature: 125°C; Package Quantity: 1; Resistance: 10R; Packaging: Tape and Reel; Tolerance: 0.1%; Termination: SMD/SMT; Composition: Thin Film; Number of Terminations: 2; Military Standard: Not; Max Power Dissipation: 100mW; Features: Moisture Resistant,Automotive AEC-Q200,Anti-Sulfur; Length: 1.6mm; Height: 0.45mm; Width: 0.8mm; Depth: 0.85mm; Radiation Hardening: No; REACH SVHC: Unknown; Lead Free: Lead Free; ComponentLink1URL: https://datasheet.ciiva.com/2483/tnpw-e3-2483765.pdf?src-supplier=Digi-Key; ComponentLink1Description: https://datasheet.ciiva.com/2483/tnpw-e3-2483765.pdf?src-supplier=Digi-Key; ComponentLink2URL: https://datasheet.ciiva.com/2483/tnpw-e3-2483766.pdf?src-supplier=Digi-Key; ComponentLink2Description: https://datasheet.ciiva.com/2483/tnpw-e3-2483766.pdf?src-supplier=Digi-Key; ComponentLink3URL: https://datasheet.ciiva.com/2483/tnpw-e3-2483767.pdf?src-supplier=Digi-Key; ComponentLink3Description: https://datasheet.ciiva.com/2483/tnpw-e3-2483767.pdf?src-supplier=Digi-Key; ComponentLink4URL: https://datasheet.ciiva.com/7743/tnpw-e3-7743799.pdf?src-supplier=Element14; ComponentLink4Description: https://datasheet.ciiva.com/7743/tnpw-e3-7743799.pdf?src-supplier=Element14; ComponentLink5URL: https://datasheet.ciiva.com/16781/70201627-16781800.pdf?src-supplier=Allied+Electronics; ComponentLink5Description: https://datasheet.ciiva.com/16781/70201627-16781800.pdf?src-supplier=Allied+Electronics; ComponentLink6URL: https://datasheet.ciiva.com/9049/tnpw-e3-9049370.pdf?src-supplier=Avnet; ComponentLink6Description: https://datasheet.ciiva.com/9049/tnpw-e3-9049370.pdf?src-supplier=Avnet; ComponentLink7URL: https://datasheet.ciiva.com/9049/tnpw-e3-9049374.pdf?src-supplier=Avnet; ComponentLink7Description: https://datasheet.ciiva.com/9049/tnpw-e3-9049374.pdf?src-supplier=Avnet; ComponentLink8URL: https://datasheet.ciiva.com/16215/tnpw-e3-16215486.pdf?src-supplier=Future+Electronics; ComponentLink8Description: https://datasheet.ciiva.com/16215/tnpw-e3-16215486.pdf?src-supplier=Future+Electronics; Supplier Part Number 1: TNPW060310R0BEEA-CUTT
footprint R0603
pins: 1, 2

## TNPW060310R0BEEA (2)
designator R?, comment 10R
Res Thin Film 0603 10 Ohm 0.1% 1/10W 25ppm/C Molded SMD SMD Paper T/R; Manufacturer: Vishay Dale; Manufacturer Part Number: TNPW060310R0BEEA; Temperature Coefficient: 25ppm/°C; Voltage Rating (DC): 50V; Power Rating: 100mW; Voltage Rating: 75V; Supplier 1: Future Electronics; RoHS: Yes; Category: Chip SMD Resistors; Stock 1: 5937; Pricing 1: 1=0,71500, 100=0,31500, 250=0,27000, 500=0,23500, 1500=0,19500 (USD); Case/Package: 0603; Weight: 7.1E-05oz; Case Code (Imperial): 0603; Case Code (Metric): 1608; Contact Plating: Tin; Min Operating Temperature: -55°C; Max Operating Temperature: 125°C; Termination: SMD/SMT; Composition: Thin Film; Number of Terminations: 2; Military Standard: Not; Package Quantity: 1; Resistance: 10R; Packaging: Tape and Reel; Tolerance: 0.1%; Features: Moisture Resistant,Automotive AEC-Q200,Anti-Sulfur; Max Power Dissipation: 100mW; Length: 1.6mm; Height: 0.45mm; Depth: 0.85mm; Width: 0.8mm; Radiation Hardening: No; Lead Free: Lead Free; REACH SVHC: Unknown; ComponentLink1URL: https://datasheet.ciiva.com/2483/tnpw-e3-2483765.pdf?src-supplier=Digi-Key; ComponentLink1Description: https://datasheet.ciiva.com/2483/tnpw-e3-2483765.pdf?src-supplier=Digi-Key; ComponentLink2URL: https://datasheet.ciiva.com/2483/tnpw-e3-2483766.pdf?src-supplier=Digi-Key; ComponentLink2Description: https://datasheet.ciiva.com/2483/tnpw-e3-2483766.pdf?src-supplier=Digi-Key; ComponentLink3URL: https://datasheet.ciiva.com/2483/tnpw-e3-2483767.pdf?src-supplier=Digi-Key; ComponentLink3Description: https://datasheet.ciiva.com/2483/tnpw-e3-2483767.pdf?src-supplier=Digi-Key; ComponentLink4URL: https://datasheet.ciiva.com/7743/tnpw-e3-7743799.pdf?src-supplier=Element14; ComponentLink4Description: https://datasheet.ciiva.com/7743/tnpw-e3-7743799.pdf?src-supplier=Element14; ComponentLink5URL: https://datasheet.ciiva.com/16781/70201627-16781800.pdf?src-supplier=Allied+Electronics; ComponentLink5Description: https://datasheet.ciiva.com/16781/70201627-16781800.pdf?src-supplier=Allied+Electronics; ComponentLink6URL: https://datasheet.ciiva.com/9049/tnpw-e3-9049370.pdf?src-supplier=Avnet; ComponentLink6Description: https://datasheet.ciiva.com/9049/tnpw-e3-9049370.pdf?src-supplier=Avnet; ComponentLink7URL: https://datasheet.ciiva.com/9049/tnpw-e3-9049374.pdf?src-supplier=Avnet; ComponentLink7Description: https://datasheet.ciiva.com/9049/tnpw-e3-9049374.pdf?src-supplier=Avnet; ComponentLink8URL: https://datasheet.ciiva.com/16215/tnpw-e3-16215486.pdf?src-supplier=Future+Electronics; ComponentLink8Description: https://datasheet.ciiva.com/16215/tnpw-e3-16215486.pdf?src-supplier=Future+Electronics; Supplier Part Number 1: TNPW060310R0BEEA-CUTT
footprint 0603-RESC1608X06N (Chip Resistor, 2-Leads, Body 1,60x0,80mm, IPC Medium Density)
pins: 1, 2

## TZP331M1HG25R-330uF Aluminium
designator C?, comment 330uF/50V
footprint THT-CAP/10x16
pins: 1, 2
text: +

## UF5406
designator D?
footprint UF5406
pins: 1 Cathode, 2 Anode

## ZM4746A-GS08
designator D?, comment 18V
DIODE, ZENER, 18V, 1W, DO-213AB, FULL REEL; Zener Voltage Vz Typ:18V; Power Dissipation Pd:1W; Diode Case Style:DO-213AB; Zener Tolerance :5%; No. of Pins:2Pins; Operating Temperature Max:175 C; Packaging:Tape & Reel; Manufacturer: Vishay; Manufacturer Part Number: ZM4746A-GS08; Element Configuration: Single; Impedance: 20R; Voltage Tolerance: 5%; Zener Current: 50mA; Max Reverse Leakage Current: 5uA; Test Current: 14mA; Supplier 1: Allied Electronics; RoHS: Yes; Category: Zener Diodes; Pricing 1: 12000=0,09400 (USD); Mount: Surface Mount; Case/Package: MELF; Number of Pins: 2; Min Operating Temperature: -65°C; Max Operating Temperature: 175°C; Breakdown Voltage: 18V; Zener Voltage: 18V; Power Dissipation: 1W; Peak Reverse Current: 5uA; Working Voltage: 18V; Package Quantity: 1; Tolerance: 5%; Packaging: Tape and Reel; Max Power Dissipation: 1W; Diameter: 2.6mm; Length: 5.2mm; Height: 2.6mm; Width: 2.6mm; Radiation Hardening: No; Lead Free: Lead Free; REACH SVHC: Unknown; ComponentLink1URL: https://datasheet.ciiva.com/17091/zm4746a-gs08-17091281.pdf?src-supplier=Allied+Electronics; ComponentLink1Description: https://datasheet.ciiva.com/17091/zm4746a-gs08-17091281.pdf?src-supplier=Allied+Electronics; ComponentLink2URL: https://datasheet.ciiva.com/18434/70061715-18434453.pdf?src-supplier=Allied+Electronics; ComponentLink2Description: https://datasheet.ciiva.com/18434/70061715-18434453.pdf?src-supplier=Allied+Electronics; ComponentLink3URL: https://datasheet.ciiva.com/13950/zm4728a-13950270.pdf?src-supplier=Digi-Key; ComponentLink3Description: https://datasheet.ciiva.com/13950/zm4728a-13950270.pdf?src-supplier=Digi-Key; ComponentLink4URL: https://datasheet.ciiva.com/16504/zm4728a-16504943.pdf?src-supplier=Future+Electronics; ComponentLink4Description: https://datasheet.ciiva.com/16504/zm4728a-16504943.pdf?src-supplier=Future+Electronics; ComponentLink5URL: https://datasheet.ciiva.com/26090/zm4728a-26090072.pdf?src-supplier=Avnet+Europe; ComponentLink5Description: https://datasheet.ciiva.com/26090/zm4728a-26090072.pdf?src-supplier=Avnet+Europe; ComponentLink6URL: https://datasheet.ciiva.com/11178/zm4728a-11178906.pdf?src-supplier=Avnet; ComponentLink6Description: https://datasheet.ciiva.com/11178/zm4728a-11178906.pdf?src-supplier=Avnet; ComponentLink7URL: https://datasheet.ciiva.com/26320/1675220-26320603.pdf?src-supplier=Element14; ComponentLink7Description: https://datasheet.ciiva.com/26320/1675220-26320603.pdf?src-supplier=Element14; Supplier Part Number 1: 70061722
footprint MELF DO-213AB (MELF Diode, 2-Leads, Body 5,00x2,50mm, IPC Medium Density)
pins: 1 Cathode, 2 Anode